# Altium schematic symbol library M95M01.SchLib: 1 symbol
Pins are listed as number, name and electrical type; pins without a type are passive.

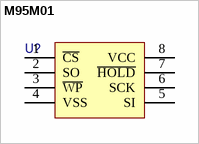
[diagram p0: symbol M95M01]

## M95M01
designator U?  (value not drawn)
pins: 1 ~{CS}, 2 SO, 3 ~{WP}, 4 VSS, 5 SI, 6 SCK, 7 ~{HOLD}, 8 VCC
1 alternate drawing of the same symbol